# EAGLE library part LM5017MR/NOPB (library _LM5017_export)
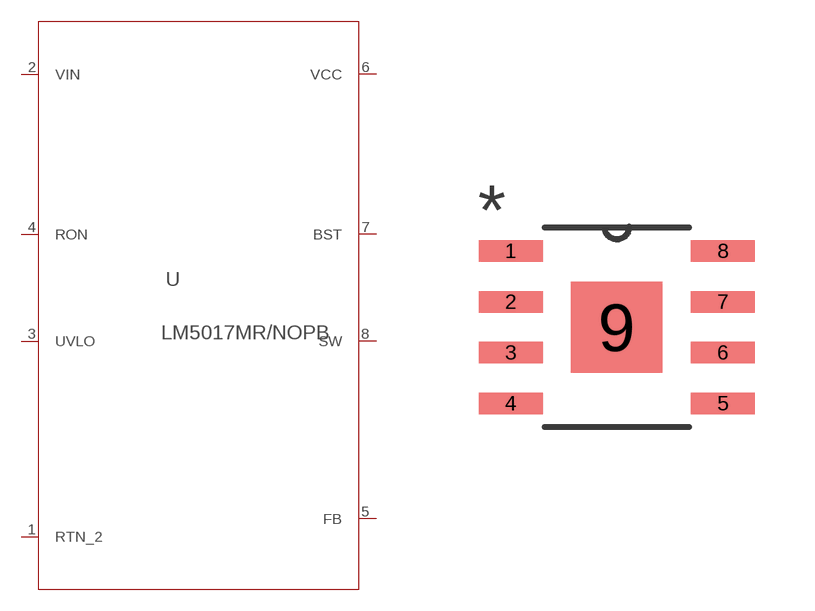
[diagram p0: symbol with the pads of MRA08A; footprint MRA08A]

Designator prefix -

## LM5017MR/NOPB (DATASHEETURL: httpwww.ti.comproductlm34927; FREQUENCY: 1000000.0; IMAX: 0.6; MANUFACTURER_NAME: Texas Instruments; MANUFACTURER_PART_NUMBER: LM5017MRNOPB; MKTG_PACKAGE: NA; NSID: LM5017SDNOPB; PACKAGE: NA; VENDOR: Texas Instruments)  [MRA08A]
1  RTN_2  pas
2  VIN  pas
3  UVLO  pas
4  RON  pas
5  FB  pas
6  VCC  pas
7  BST  pas
8  SW  pas

## Footprint MRA08A (pad centres in mm)
smd 1.6 x 0.533: 1 -2.654,1.905; 2 -2.654,0.635; 3 -2.654,-0.635; 4 -2.654,-1.905; 5 2.654,-1.905; 6 2.654,-0.635; 7 2.654,0.635; 8 2.654,1.905
smd 2.286 x 2.286: 9 0,0